# Altium integrated library TI Amplifiers and Linear Special Function Amplifier.IntLib: 708 symbols (part 36 of 47)
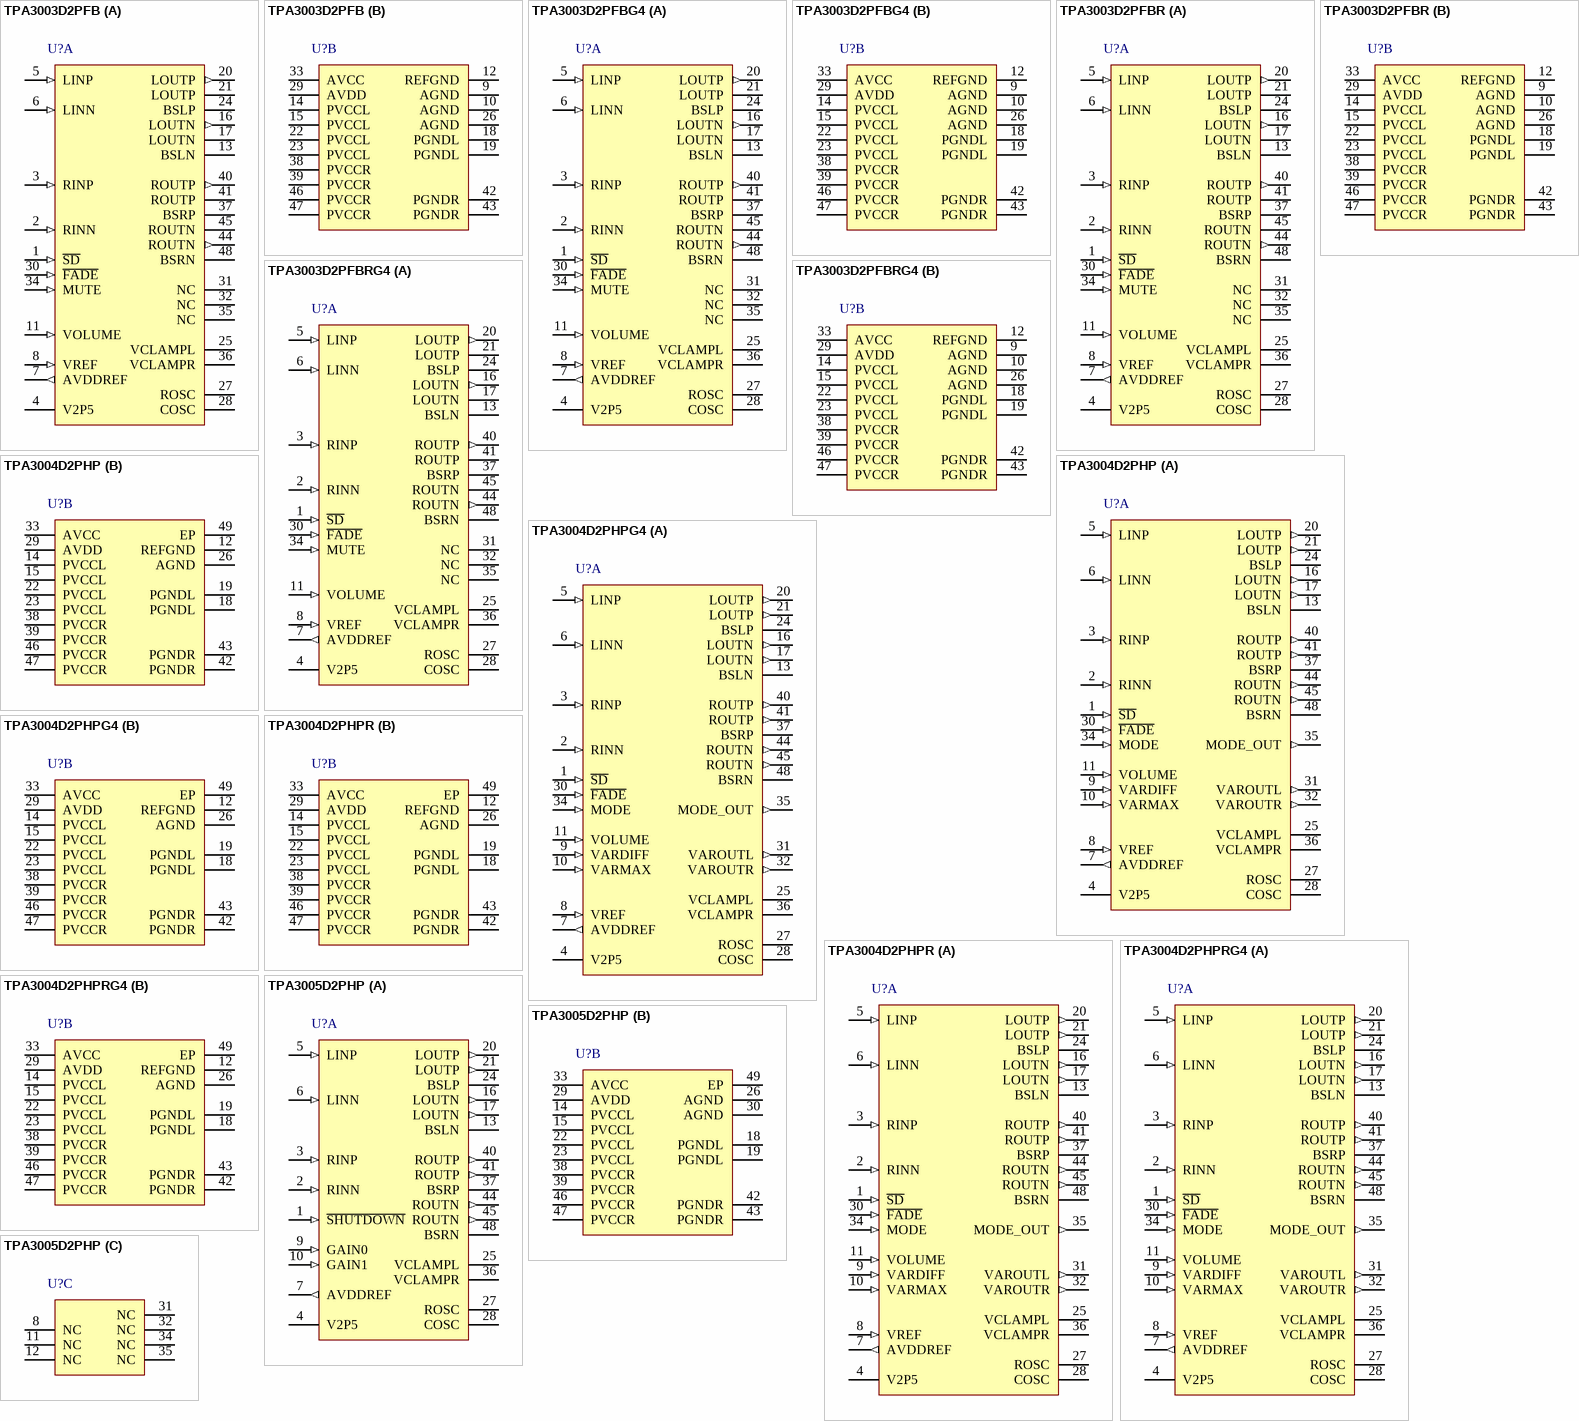
[diagram p74: symbols TPA3003D2PFB to TPA3005D2PHP]

## TPA3004D2PHPRG4
designator U?
12 W Stereo Class-D Audio Power Amplifier with Volume Control, -40 to 85 degC, 48-pin QFP (PHP48), Green (RoHS & no Sb/Br); Manufacturer: Texas Instruments; PartNumber: TPA3004D2PHPRG4; Analog Supply Max [V]: 18; Analog Supply Min [V]: 8.5; Input Type: Analog; Max. Number of Speaker Outputs: 2; SubFamily: Mid/High-Power Amplifier; DatasheetVersion: SLOS407E; PackageVersion: 4146927/B, 08/2003; PackageReference: PHP48-4385X4385TP; PackageDescription: 48-Pin PowerPAD(TM) Plastic Quad Flatpack, Body 7 x 7 mm, Pitch 0.5 mm; Supplier 1: Digi-Key; Supplier Part Number 1: TPA3004D2PHPRG4-ND; Supplier 2: Mouser; Supplier Part Number 2: 595-TPA3004D2PHPRG4; Eco-Plan: Green (RoHS & no Sb/Br); Power Stage Supply Min(V): 8.5; Mounting Technology: Surface Mount; Code_JEDEC: MS-026; ComponentLink1Description: Manufacturer URL; ComponentLink1URL: http://www.ti.com/; ComponentLink2Description: Datasheet; ComponentLink2URL: http://www.ti.com/general/docs/lit/getliterature.tsp?genericPartNumber=TPA3004D2&fileType=pdf; ComponentLink3Description: Package Specification; ComponentLink3URL: http://www.ti.com/litv/pdf/mpdi001b
footprint TI-PHP48-4385X4385TP_N (QFP, 48-Leads, Body 7x7mm, Pitch 0.5mm, Thermal Pad 4.9x4.9mm, IPC Medium Density)
footprint TI-PHP48-4385X4385TP_L (QFP, 48-Leads, Body 7x7mm, Pitch 0.5mm, Thermal Pad 4.9x4.9mm, IPC High Density)
footprint TI-PHP48-4385X4385TP_M (QFP, 48-Leads, Body 7x7mm, Pitch 0.5mm, Thermal Pad 4.9x4.9mm, IPC Low Density)
part A pins: 1 ~{SD} (in) "Shutdown signal for IC (low = shutdown, high = operational). TTL logic levels with compliance to VCC.", 2 RINN (in) "Negative differential audio input for right channel", 3 RINP (in) "Positive differential audio input for right channel", 4 V2P5 "2.5-V Reference for analog cells, as well as reference for unused audio input when using single-ended inputs.", 5 LINP (in) "Positive differential audio input for left channel", 6 LINN (in) "Negative differential audio input for left channel", 7 AVDDREF (out) "5-V Reference output-provided for connection to adjacent VREF terminal.", 8 VREF (in) "Analog reference for gain control section.", 9 VARDIFF (in) "DC voltage to set the difference in gain between the Class-D and VAROUT outputs. Connect to GND or AVDDREF if VAROUT outputs are unconnected.", 10 VARMAX (in) "DC voltage that sets the maximum gain for the VAROUT outputs. Connect to GND or AVDDREF if VAROUT outputs are unconnected.", 11 VOLUME (in) "DC voltage that sets the gain of the amplifier.", 13 BSLN "Bootstrap I/O for left channel, negative high-side FET", 16 LOUTN (out) "Class-D 1/2-H-bridge negative output for left channel", 17 LOUTN (out) "Class-D 1/2-H-bridge negative output for left channel", 20 LOUTP (out) "Class-D 1/2-H-bridge negative output for left channel", 21 LOUTP (out) "Class-D 1/2-H-bridge negative output for left channel", 24 BSLP "Bootstrap I/O for left channel, positive high-side FET", 25 VCLAMPL "Internally generated voltage supply for left channel bootstrap capacitors.", 27 ROSC "Current setting resistor for ramp generator. Nominally equal to 1/8*VCC", 28 COSC "I/O for charge/discharging currents onto capacitor for ramp generator triangle wave biased at V2P5", 30 ~{FADE} (in) "Input for controlling volume ramp rate. A logic low on this pin places the amplifier in fade mode. A logic high on this pin allows a quick transition to the desired volume setting when cycling S\D\ or during power-up.", 31 VAROUTL (out) "Variable output for left channel audio. Line level output for driving external HP amplifier.", 32 VAROUTR (out) "Variable output for right channel audio. Line level output for driving external HP amplifier.", 34 MODE (in) "Input for MODE control. A logic high on this pin places the amplifier in the variable output mode and the Class-D outputs are disabled. A logic low on this pin places the amplifier in the Class-D mode and Class-D stereo (See Datasheet)", 35 MODE_OUT (out) "Output for control of the variable output amplifiers. When the MODE pin (34) is a logic high, the MODE_OUT pin is driven low. When the MODE pin (34) is a logic low, the MODE_OUT pin is driven high. This pin is intended for (See Datasheet)", 36 VCLAMPR "Internally generated voltage supply for right channel bootstrap capacitors.", 37 BSRP "Bootstrap I/O for right channel, positive high-side FET", 40 ROUTP (out) "Class-D 1/2-H-bridge positive output for right channel", 41 ROUTP (out) "Class-D 1/2-H-bridge positive output for right channel", 44 ROUTN (out) "Class-D 1/2-H-bridge negative output for right channel", 45 ROUTN (out) "Class-D 1/2-H-bridge negative output for right channel", 48 BSRN "Bootstrap I/O for right channel, negative high-side FET"
part B pins: 12 REFGND (power) "Ground for gain control circuitry. Connect to AGND. If using a DAC to control the volume, connect the DAC ground to this terminal.", 14 PVCCL (power) "Power supply for left channel H-bridge (tied to pins 22 and 23 internally), not connected to PVCCR or AVCC.", 15 PVCCL (power) "Power supply for left channel H-bridge (tied to pins 22 and 23 internally), not connected to PVCCR or AVCC.", 18 PGNDL (power) "Power ground for left channel H-bridge", 19 PGNDL (power) "Power ground for left channel H-bridge", 22 PVCCL (power) "Power supply for left channel H-bridge (tied to pins 14 and 15 internally), not connected to PVCCR or AVCC.", 23 PVCCL (power) "Power supply for left channel H-bridge (tied to pins 14 and 15 internally), not connected to PVCCR or AVCC.", 26 AGND (power) "Analog ground for digital/analog cells in core", 29 AVDD (power) "5-V Regulated output capable of 100-mA output", 33 AVCC (power) "High-voltage analog power supply (8.5 V to 18 V)", 38 PVCCR (power) "Power supply for left channel H-bridge (tied to pins 14 and 15 internally), not connected to PVCCR or AVCC.", 39 PVCCR (power) "Power supply for left channel H-bridge (tied to pins 14 and 15 internally), not connected to PVCCR or AVCC.", 42 PGNDR (power) "Power ground for right channel H-bridge", 43 PGNDR (power) "Power ground for right channel H-bridge", 46 PVCCR (power) "Power supply for right channel H-bridge (tied to pins 38 and 39 internally), not connected to PVCCL or AVCC.", 47 PVCCR (power) "Power supply for right channel H-bridge (tied to pins 38 and 39 internally), not connected to PVCCL or AVCC.", 49 EP (power) "Connect to AGND and PGND-should be center point for both grounds."

## TPA3005D2PHP
designator U?
6 W Stereo Class-D Audio Power Amplifier, -40 to 85 degC, 48-pin QFP (PHP48), Green (RoHS & no Sb/Br); Manufacturer: Texas Instruments; PartNumber: TPA3005D2PHP; Analog Supply Max [V]: 18; Analog Supply Min [V]: 8.5; Input Type: Analog; Max. Number of Speaker Outputs: 2; SubFamily: Mid/High-Power Amplifier; DatasheetVersion: SLOS427A; PackageVersion: 4146927/B, 08/2003; PackageReference: PHP48-4385X4385TP; PackageDescription: 48-Pin PowerPAD(TM) Plastic Quad Flatpack, Body 7 x 7 mm, Pitch 0.5 mm; Supplier 1: Digi-Key; Supplier Part Number 1: TPA3005D2PHP-ND; Supplier 2: Newark; Supplier Part Number 2: 10J9729; Supplier 3: Mouser; Supplier Part Number 3: 595-TPA3005D2PHP; Eco-Plan: Green (RoHS & no Sb/Br); Power Stage Supply Min(V): 8.5; Mounting Technology: Surface Mount; Code_JEDEC: MS-026; ComponentLink1Description: Manufacturer URL; ComponentLink1URL: http://www.ti.com/; ComponentLink2Description: Datasheet; ComponentLink2URL: http://www.ti.com/general/docs/lit/getliterature.tsp?genericPartNumber=TPA3005D2&fileType=pdf; ComponentLink3Description: Package Specification; ComponentLink3URL: http://www.ti.com/litv/pdf/mpdi001b
footprint TI-PHP48-4385X4385TP_N (QFP, 48-Leads, Body 7x7mm, Pitch 0.5mm, Thermal Pad 4.9x4.9mm, IPC Medium Density)
footprint TI-PHP48-4385X4385TP_L (QFP, 48-Leads, Body 7x7mm, Pitch 0.5mm, Thermal Pad 4.9x4.9mm, IPC High Density)
footprint TI-PHP48-4385X4385TP_M (QFP, 48-Leads, Body 7x7mm, Pitch 0.5mm, Thermal Pad 4.9x4.9mm, IPC Low Density)
part A pins: 1 ~{SHUTDOWN} (in) "Shutdown signal for IC (low = shutdown, high = operational). TTL logic levels with compliance to VCC.", 2 RINN (in) "Negative differential audio input for right channel", 3 RINP (in) "Positive differential audio input for right channel", 4 V2P5 (power) "2.5-V Reference for analog cells.", 5 LINP (in) "Positive differential audio input for left channel", 6 LINN (in) "Negative differential audio input for left channel", 7 AVDDREF (out) "5-V Reference output-connect to gain setting resistor or directly to GAIN0, GAIN1.", 9 GAIN0 (in) "Gain select least significant bit. TTL logic levels with compliance to AVDD.", 10 GAIN1 (in) "Gain select most significant bit. TTL logic levels with compliance to AVDD.", 13 BSLN "Bootstrap I/O for left channel, negative high-side FET", 16 LOUTN (out) "Class-D 1/2-H-bridge negative output for left channel", 17 LOUTN (out) "Class-D 1/2-H-bridge negative output for left channel", 20 LOUTP (out) "Class-D 1/2-H-bridge negative output for left channel", 21 LOUTP (out) "Class-D 1/2-H-bridge negative output for left channel", 24 BSLP "Bootstrap I/O for left channel, positive high-side FET", 25 VCLAMPL "Internally generated voltage supply for left channel bootstrap capacitors.", 27 ROSC "I/O current setting resistor for ramp generator.", 28 COSC "I/O for charge/discharging currents onto capacitor for ramp generator.", 36 VCLAMPR "Internally generated voltage supply for right channel bootstrap capacitors.", 37 BSRP "Bootstrap I/O for right channel, positive high-side FET", 40 ROUTP (out) "Class-D 1/2-H-bridge positive output for right channel", 41 ROUTP (out) "Class-D 1/2-H-bridge positive output for right channel", 44 ROUTN (out) "Class-D 1/2-H-bridge negative output for right channel", 45 ROUTN (out) "Class-D 1/2-H-bridge negative output for right channel", 48 BSRN "Bootstrap I/O for right channel, negative high-side FET"
part B pins: 14 PVCCL (power) "Power supply for left channel H-bridge (tied to pins 22 and 23 internally), not connected to PVCCR or AVCC.", 15 PVCCL (power) "Power supply for left channel H-bridge (tied to pins 22 and 23 internally), not connected to PVCCR or AVCC.", 18 PGNDL (power) "Power ground for left channel H-bridge", 19 PGNDL (power) "Power ground for left channel H-bridge", 22 PVCCL (power) "Power supply for left channel H-bridge (tied to pins 14 and 15 internally), not connected to PVCCR or AVCC.", 23 PVCCL (power) "Power supply for left channel H-bridge (tied to pins 14 and 15 internally), not connected to PVCCR or AVCC.", 26 AGND (power) "Analog ground for digital/analog cells in core", 29 AVDD (power) "5-V Regulated output for use by internal cells and GAIN0, GAIN1 pins only. Not specified for driving other external circuitry.", 30 AGND (power) "Analog ground for digital/analog cells in core", 33 AVCC (power) "High-voltage analog power supply, not connected internally to PVCCR or PVCCL", 38 PVCCR (power) "Power supply for left channel H-bridge (tied to pins 14 and 15 internally), not connected to PVCCR or AVCC.", 39 PVCCR (power) "Power supply for left channel H-bridge (tied to pins 14 and 15 internally), not connected to PVCCR or AVCC.", 42 PGNDR (power) "Power ground for right channel H-bridge", 43 PGNDR (power) "Power ground for right channel H-bridge", 46 PVCCR (power) "Power supply for right channel H-bridge (tied to pins 38 and 39 internally), not connected to PVCCL or AVCC.", 47 PVCCR (power) "Power supply for right channel H-bridge (tied to pins 38 and 39 internally), not connected to PVCCL or AVCC.", 49 EP (power) "Connect to AGND and PGND-should be the center point for both grounds. Internal resistive connection to AGND."
part C pins: 8 NC "No internal connection", 11 NC "No internal connection", 12 NC "No internal connection", 31 NC "No internal connection", 32 NC "No internal connection", 34 NC "No internal connection", 35 NC "No internal connection"

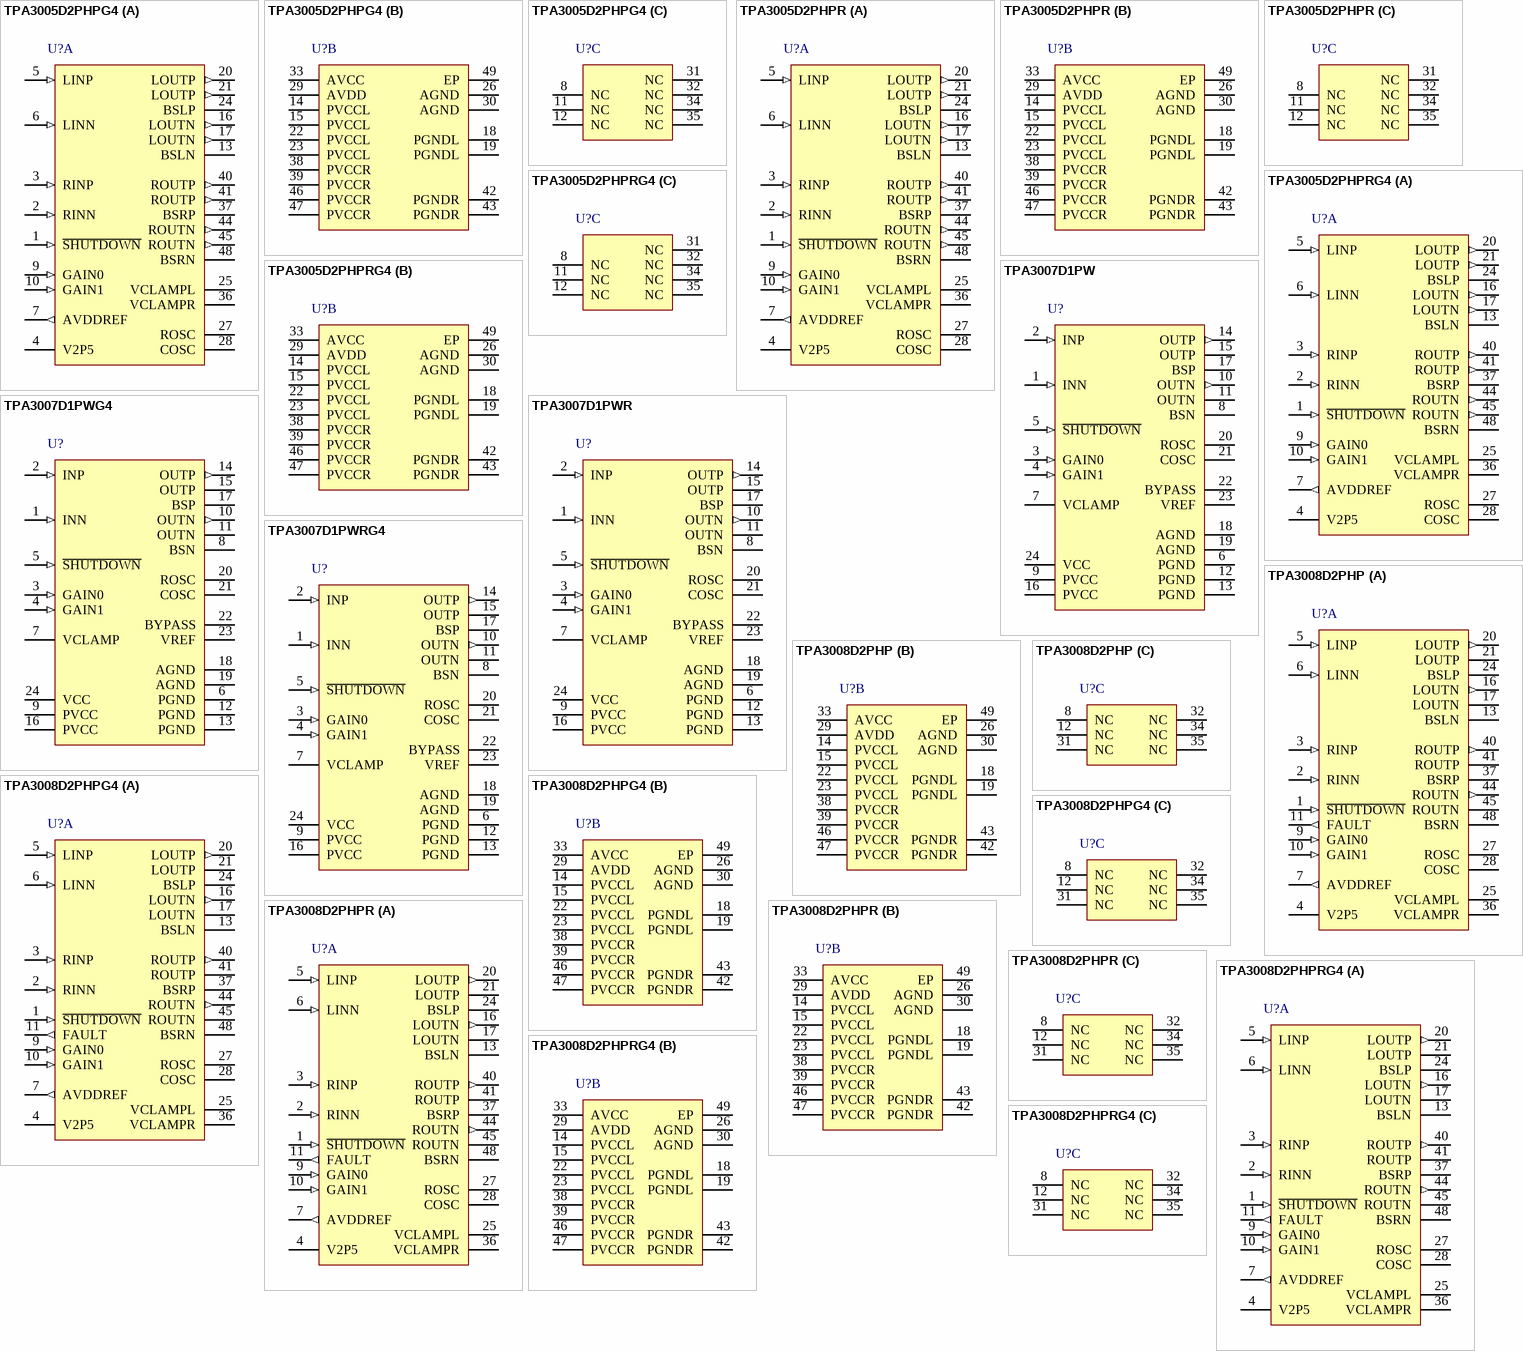
[diagram p31: symbols TPA3005D2PHPG4 to TPA3008D2PHPRG4]

## TPA3005D2PHPG4
designator U?
6 W Stereo Class-D Audio Power Amplifier, -40 to 85 degC, 48-pin QFP (PHP48), Green (RoHS & no Sb/Br); Manufacturer: Texas Instruments; PartNumber: TPA3005D2PHPG4; Analog Supply Max [V]: 18; Analog Supply Min [V]: 8.5; Input Type: Analog; Max. Number of Speaker Outputs: 2; SubFamily: Mid/High-Power Amplifier; DatasheetVersion: SLOS427A; PackageVersion: 4146927/B, 08/2003; PackageReference: PHP48-4385X4385TP; PackageDescription: 48-Pin PowerPAD(TM) Plastic Quad Flatpack, Body 7 x 7 mm, Pitch 0.5 mm; Supplier 1: Digi-Key; Supplier Part Number 1: TPA3005D2PHPG4-ND; Supplier 2: Newark; Supplier Part Number 2: 08K4920; Supplier 3: Mouser; Supplier Part Number 3: 595-TPA3005D2PHPG4; Eco-Plan: Green (RoHS & no Sb/Br); Power Stage Supply Min(V): 8.5; Mounting Technology: Surface Mount; Code_JEDEC: MS-026; ComponentLink1Description: Manufacturer URL; ComponentLink1URL: http://www.ti.com/; ComponentLink2Description: Datasheet; ComponentLink2URL: http://www.ti.com/general/docs/lit/getliterature.tsp?genericPartNumber=TPA3005D2&fileType=pdf; ComponentLink3Description: Package Specification; ComponentLink3URL: http://www.ti.com/litv/pdf/mpdi001b
footprint TI-PHP48-4385X4385TP_N (QFP, 48-Leads, Body 7x7mm, Pitch 0.5mm, Thermal Pad 4.9x4.9mm, IPC Medium Density)
footprint TI-PHP48-4385X4385TP_L (QFP, 48-Leads, Body 7x7mm, Pitch 0.5mm, Thermal Pad 4.9x4.9mm, IPC High Density)
footprint TI-PHP48-4385X4385TP_M (QFP, 48-Leads, Body 7x7mm, Pitch 0.5mm, Thermal Pad 4.9x4.9mm, IPC Low Density)
part A pins: 1 ~{SHUTDOWN} (in) "Shutdown signal for IC (low = shutdown, high = operational). TTL logic levels with compliance to VCC.", 2 RINN (in) "Negative differential audio input for right channel", 3 RINP (in) "Positive differential audio input for right channel", 4 V2P5 (power) "2.5-V Reference for analog cells.", 5 LINP (in) "Positive differential audio input for left channel", 6 LINN (in) "Negative differential audio input for left channel", 7 AVDDREF (out) "5-V Reference output-connect to gain setting resistor or directly to GAIN0, GAIN1.", 9 GAIN0 (in) "Gain select least significant bit. TTL logic levels with compliance to AVDD.", 10 GAIN1 (in) "Gain select most significant bit. TTL logic levels with compliance to AVDD.", 13 BSLN "Bootstrap I/O for left channel, negative high-side FET", 16 LOUTN (out) "Class-D 1/2-H-bridge negative output for left channel", 17 LOUTN (out) "Class-D 1/2-H-bridge negative output for left channel", 20 LOUTP (out) "Class-D 1/2-H-bridge negative output for left channel", 21 LOUTP (out) "Class-D 1/2-H-bridge negative output for left channel", 24 BSLP "Bootstrap I/O for left channel, positive high-side FET", 25 VCLAMPL "Internally generated voltage supply for left channel bootstrap capacitors.", 27 ROSC "I/O current setting resistor for ramp generator.", 28 COSC "I/O for charge/discharging currents onto capacitor for ramp generator.", 36 VCLAMPR "Internally generated voltage supply for right channel bootstrap capacitors.", 37 BSRP "Bootstrap I/O for right channel, positive high-side FET", 40 ROUTP (out) "Class-D 1/2-H-bridge positive output for right channel", 41 ROUTP (out) "Class-D 1/2-H-bridge positive output for right channel", 44 ROUTN (out) "Class-D 1/2-H-bridge negative output for right channel", 45 ROUTN (out) "Class-D 1/2-H-bridge negative output for right channel", 48 BSRN "Bootstrap I/O for right channel, negative high-side FET"
part B pins: 14 PVCCL (power) "Power supply for left channel H-bridge (tied to pins 22 and 23 internally), not connected to PVCCR or AVCC.", 15 PVCCL (power) "Power supply for left channel H-bridge (tied to pins 22 and 23 internally), not connected to PVCCR or AVCC.", 18 PGNDL (power) "Power ground for left channel H-bridge", 19 PGNDL (power) "Power ground for left channel H-bridge", 22 PVCCL (power) "Power supply for left channel H-bridge (tied to pins 14 and 15 internally), not connected to PVCCR or AVCC.", 23 PVCCL (power) "Power supply for left channel H-bridge (tied to pins 14 and 15 internally), not connected to PVCCR or AVCC.", 26 AGND (power) "Analog ground for digital/analog cells in core", 29 AVDD (power) "5-V Regulated output for use by internal cells and GAIN0, GAIN1 pins only. Not specified for driving other external circuitry.", 30 AGND (power) "Analog ground for digital/analog cells in core", 33 AVCC (power) "High-voltage analog power supply, not connected internally to PVCCR or PVCCL", 38 PVCCR (power) "Power supply for left channel H-bridge (tied to pins 14 and 15 internally), not connected to PVCCR or AVCC.", 39 PVCCR (power) "Power supply for left channel H-bridge (tied to pins 14 and 15 internally), not connected to PVCCR or AVCC.", 42 PGNDR (power) "Power ground for right channel H-bridge", 43 PGNDR (power) "Power ground for right channel H-bridge", 46 PVCCR (power) "Power supply for right channel H-bridge (tied to pins 38 and 39 internally), not connected to PVCCL or AVCC.", 47 PVCCR (power) "Power supply for right channel H-bridge (tied to pins 38 and 39 internally), not connected to PVCCL or AVCC.", 49 EP (power) "Connect to AGND and PGND-should be the center point for both grounds. Internal resistive connection to AGND."
part C pins: 8 NC "No internal connection", 11 NC "No internal connection", 12 NC "No internal connection", 31 NC "No internal connection", 32 NC "No internal connection", 34 NC "No internal connection", 35 NC "No internal connection"

## TPA3005D2PHPR
designator U?
6 W Stereo Class-D Audio Power Amplifier, -40 to 85 degC, 48-pin QFP (PHP48), Green (RoHS & no Sb/Br); Manufacturer: Texas Instruments; PartNumber: TPA3005D2PHPR; Analog Supply Max [V]: 18; Analog Supply Min [V]: 8.5; Input Type: Analog; Max. Number of Speaker Outputs: 2; SubFamily: Mid/High-Power Amplifier; DatasheetVersion: SLOS427A; PackageVersion: 4146927/B, 08/2003; PackageReference: PHP48-4385X4385TP; PackageDescription: 48-Pin PowerPAD(TM) Plastic Quad Flatpack, Body 7 x 7 mm, Pitch 0.5 mm; Supplier 1: Digi-Key; Supplier Part Number 1: 296-17058-2-ND; Supplier 2: Digi-Key; Supplier Part Number 2: 296-17058-1-ND; Supplier 3: Digi-Key; Supplier Part Number 3: 296-17058-6-ND; Supplier 4: Newark; Supplier Part Number 4: 10J9730; Supplier 5: Mouser; Supplier Part Number 5: 595-TPA3005D2PHPR; Eco-Plan: Green (RoHS & no Sb/Br); Power Stage Supply Min(V): 8.5; Mounting Technology: Surface Mount; Code_JEDEC: MS-026; ComponentLink1Description: Manufacturer URL; ComponentLink1URL: http://www.ti.com/; ComponentLink2Description: Datasheet; ComponentLink2URL: http://www.ti.com/general/docs/lit/getliterature.tsp?genericPartNumber=TPA3005D2&fileType=pdf; ComponentLink3Description: Package Specification; ComponentLink3URL: http://www.ti.com/litv/pdf/mpdi001b
footprint TI-PHP48-4385X4385TP_N (QFP, 48-Leads, Body 7x7mm, Pitch 0.5mm, Thermal Pad 4.9x4.9mm, IPC Medium Density)
footprint TI-PHP48-4385X4385TP_L (QFP, 48-Leads, Body 7x7mm, Pitch 0.5mm, Thermal Pad 4.9x4.9mm, IPC High Density)
footprint TI-PHP48-4385X4385TP_M (QFP, 48-Leads, Body 7x7mm, Pitch 0.5mm, Thermal Pad 4.9x4.9mm, IPC Low Density)
part A pins: 1 ~{SHUTDOWN} (in) "Shutdown signal for IC (low = shutdown, high = operational). TTL logic levels with compliance to VCC.", 2 RINN (in) "Negative differential audio input for right channel", 3 RINP (in) "Positive differential audio input for right channel", 4 V2P5 (power) "2.5-V Reference for analog cells.", 5 LINP (in) "Positive differential audio input for left channel", 6 LINN (in) "Negative differential audio input for left channel", 7 AVDDREF (out) "5-V Reference output-connect to gain setting resistor or directly to GAIN0, GAIN1.", 9 GAIN0 (in) "Gain select least significant bit. TTL logic levels with compliance to AVDD.", 10 GAIN1 (in) "Gain select most significant bit. TTL logic levels with compliance to AVDD.", 13 BSLN "Bootstrap I/O for left channel, negative high-side FET", 16 LOUTN (out) "Class-D 1/2-H-bridge negative output for left channel", 17 LOUTN (out) "Class-D 1/2-H-bridge negative output for left channel", 20 LOUTP (out) "Class-D 1/2-H-bridge negative output for left channel", 21 LOUTP (out) "Class-D 1/2-H-bridge negative output for left channel", 24 BSLP "Bootstrap I/O for left channel, positive high-side FET", 25 VCLAMPL "Internally generated voltage supply for left channel bootstrap capacitors.", 27 ROSC "I/O current setting resistor for ramp generator.", 28 COSC "I/O for charge/discharging currents onto capacitor for ramp generator.", 36 VCLAMPR "Internally generated voltage supply for right channel bootstrap capacitors.", 37 BSRP "Bootstrap I/O for right channel, positive high-side FET", 40 ROUTP (out) "Class-D 1/2-H-bridge positive output for right channel", 41 ROUTP (out) "Class-D 1/2-H-bridge positive output for right channel", 44 ROUTN (out) "Class-D 1/2-H-bridge negative output for right channel", 45 ROUTN (out) "Class-D 1/2-H-bridge negative output for right channel", 48 BSRN "Bootstrap I/O for right channel, negative high-side FET"
part B pins: 14 PVCCL (power) "Power supply for left channel H-bridge (tied to pins 22 and 23 internally), not connected to PVCCR or AVCC.", 15 PVCCL (power) "Power supply for left channel H-bridge (tied to pins 22 and 23 internally), not connected to PVCCR or AVCC.", 18 PGNDL (power) "Power ground for left channel H-bridge", 19 PGNDL (power) "Power ground for left channel H-bridge", 22 PVCCL (power) "Power supply for left channel H-bridge (tied to pins 14 and 15 internally), not connected to PVCCR or AVCC.", 23 PVCCL (power) "Power supply for left channel H-bridge (tied to pins 14 and 15 internally), not connected to PVCCR or AVCC.", 26 AGND (power) "Analog ground for digital/analog cells in core", 29 AVDD (power) "5-V Regulated output for use by internal cells and GAIN0, GAIN1 pins only. Not specified for driving other external circuitry.", 30 AGND (power) "Analog ground for digital/analog cells in core", 33 AVCC (power) "High-voltage analog power supply, not connected internally to PVCCR or PVCCL", 38 PVCCR (power) "Power supply for left channel H-bridge (tied to pins 14 and 15 internally), not connected to PVCCR or AVCC.", 39 PVCCR (power) "Power supply for left channel H-bridge (tied to pins 14 and 15 internally), not connected to PVCCR or AVCC.", 42 PGNDR (power) "Power ground for right channel H-bridge", 43 PGNDR (power) "Power ground for right channel H-bridge", 46 PVCCR (power) "Power supply for right channel H-bridge (tied to pins 38 and 39 internally), not connected to PVCCL or AVCC.", 47 PVCCR (power) "Power supply for right channel H-bridge (tied to pins 38 and 39 internally), not connected to PVCCL or AVCC.", 49 EP (power) "Connect to AGND and PGND-should be the center point for both grounds. Internal resistive connection to AGND."
part C pins: 8 NC "No internal connection", 11 NC "No internal connection", 12 NC "No internal connection", 31 NC "No internal connection", 32 NC "No internal connection", 34 NC "No internal connection", 35 NC "No internal connection"

## TPA3005D2PHPRG4
designator U?
6 W Stereo Class-D Audio Power Amplifier, -40 to 85 degC, 48-pin QFP (PHP48), Green (RoHS & no Sb/Br); Manufacturer: Texas Instruments; PartNumber: TPA3005D2PHPRG4; Analog Supply Max [V]: 18; Analog Supply Min [V]: 8.5; Input Type: Analog; Max. Number of Speaker Outputs: 2; SubFamily: Mid/High-Power Amplifier; DatasheetVersion: SLOS427A; PackageVersion: 4146927/B, 08/2003; PackageReference: PHP48-4385X4385TP; PackageDescription: 48-Pin PowerPAD(TM) Plastic Quad Flatpack, Body 7 x 7 mm, Pitch 0.5 mm; Supplier 1: Digi-Key; Supplier Part Number 1: TPA3005D2PHPRG4-ND; Supplier 2: Newark; Supplier Part Number 2: 71J8058; Supplier 3: Mouser; Supplier Part Number 3: 595-TPA3005D2PHPRG4; Eco-Plan: Green (RoHS & no Sb/Br); Power Stage Supply Min(V): 8.5; Mounting Technology: Surface Mount; Code_JEDEC: MS-026; ComponentLink1Description: Manufacturer URL; ComponentLink1URL: http://www.ti.com/; ComponentLink2Description: Datasheet; ComponentLink2URL: http://www.ti.com/general/docs/lit/getliterature.tsp?genericPartNumber=TPA3005D2&fileType=pdf; ComponentLink3Description: Package Specification; ComponentLink3URL: http://www.ti.com/litv/pdf/mpdi001b
footprint TI-PHP48-4385X4385TP_N (QFP, 48-Leads, Body 7x7mm, Pitch 0.5mm, Thermal Pad 4.9x4.9mm, IPC Medium Density)
footprint TI-PHP48-4385X4385TP_L (QFP, 48-Leads, Body 7x7mm, Pitch 0.5mm, Thermal Pad 4.9x4.9mm, IPC High Density)
footprint TI-PHP48-4385X4385TP_M (QFP, 48-Leads, Body 7x7mm, Pitch 0.5mm, Thermal Pad 4.9x4.9mm, IPC Low Density)
part A pins: 1 ~{SHUTDOWN} (in) "Shutdown signal for IC (low = shutdown, high = operational). TTL logic levels with compliance to VCC.", 2 RINN (in) "Negative differential audio input for right channel", 3 RINP (in) "Positive differential audio input for right channel", 4 V2P5 (power) "2.5-V Reference for analog cells.", 5 LINP (in) "Positive differential audio input for left channel", 6 LINN (in) "Negative differential audio input for left channel", 7 AVDDREF (out) "5-V Reference output-connect to gain setting resistor or directly to GAIN0, GAIN1.", 9 GAIN0 (in) "Gain select least significant bit. TTL logic levels with compliance to AVDD.", 10 GAIN1 (in) "Gain select most significant bit. TTL logic levels with compliance to AVDD.", 13 BSLN "Bootstrap I/O for left channel, negative high-side FET", 16 LOUTN (out) "Class-D 1/2-H-bridge negative output for left channel", 17 LOUTN (out) "Class-D 1/2-H-bridge negative output for left channel", 20 LOUTP (out) "Class-D 1/2-H-bridge negative output for left channel", 21 LOUTP (out) "Class-D 1/2-H-bridge negative output for left channel", 24 BSLP "Bootstrap I/O for left channel, positive high-side FET", 25 VCLAMPL "Internally generated voltage supply for left channel bootstrap capacitors.", 27 ROSC "I/O current setting resistor for ramp generator.", 28 COSC "I/O for charge/discharging currents onto capacitor for ramp generator.", 36 VCLAMPR "Internally generated voltage supply for right channel bootstrap capacitors.", 37 BSRP "Bootstrap I/O for right channel, positive high-side FET", 40 ROUTP (out) "Class-D 1/2-H-bridge positive output for right channel", 41 ROUTP (out) "Class-D 1/2-H-bridge positive output for right channel", 44 ROUTN (out) "Class-D 1/2-H-bridge negative output for right channel", 45 ROUTN (out) "Class-D 1/2-H-bridge negative output for right channel", 48 BSRN "Bootstrap I/O for right channel, negative high-side FET"
part B pins: 14 PVCCL (power) "Power supply for left channel H-bridge (tied to pins 22 and 23 internally), not connected to PVCCR or AVCC.", 15 PVCCL (power) "Power supply for left channel H-bridge (tied to pins 22 and 23 internally), not connected to PVCCR or AVCC.", 18 PGNDL (power) "Power ground for left channel H-bridge", 19 PGNDL (power) "Power ground for left channel H-bridge", 22 PVCCL (power) "Power supply for left channel H-bridge (tied to pins 14 and 15 internally), not connected to PVCCR or AVCC.", 23 PVCCL (power) "Power supply for left channel H-bridge (tied to pins 14 and 15 internally), not connected to PVCCR or AVCC.", 26 AGND (power) "Analog ground for digital/analog cells in core", 29 AVDD (power) "5-V Regulated output for use by internal cells and GAIN0, GAIN1 pins only. Not specified for driving other external circuitry.", 30 AGND (power) "Analog ground for digital/analog cells in core", 33 AVCC (power) "High-voltage analog power supply, not connected internally to PVCCR or PVCCL", 38 PVCCR (power) "Power supply for left channel H-bridge (tied to pins 14 and 15 internally), not connected to PVCCR or AVCC.", 39 PVCCR (power) "Power supply for left channel H-bridge (tied to pins 14 and 15 internally), not connected to PVCCR or AVCC.", 42 PGNDR (power) "Power ground for right channel H-bridge", 43 PGNDR (power) "Power ground for right channel H-bridge", 46 PVCCR (power) "Power supply for right channel H-bridge (tied to pins 38 and 39 internally), not connected to PVCCL or AVCC.", 47 PVCCR (power) "Power supply for right channel H-bridge (tied to pins 38 and 39 internally), not connected to PVCCL or AVCC.", 49 EP (power) "Connect to AGND and PGND-should be the center point for both grounds. Internal resistive connection to AGND."
part C pins: 8 NC "No internal connection", 11 NC "No internal connection", 12 NC "No internal connection", 31 NC "No internal connection", 32 NC "No internal connection", 34 NC "No internal connection", 35 NC "No internal connection"

## TPA3007D1PW
designator U?
6.5 W Mono Class-D Audio Power Amplifier, -40 to 85 degC, 24-pin SOP (PW24), Green (RoHS & no Sb/Br); Manufacturer: Texas Instruments; PartNumber: TPA3007D1PW; Analog Supply Max [V]: 18; Analog Supply Min [V]: 8; Input Type: Analog; Max. Number of Speaker Outputs: 1; SubFamily: Mid/High-Power Amplifier; DatasheetVersion: SLOS418D; PackageVersion: 4040064-6/G, 02/2011; PackageReference: PW24; PackageDescription: 24-Pin Plastic Small Outline, Body 7.8 x 4.4 mm, Pitch 0.65 mm; Supplier 1: Digi-Key; Supplier Part Number 1: 296-15792-5-ND; Supplier 2: Farnell; Supplier Part Number 2: 2323262; Supplier 3: Newark; Supplier Part Number 3: 87H2872; Supplier 4: Mouser; Supplier Part Number 4: 595-TPA3007D1PW; Eco-Plan: Green (RoHS & no Sb/Br); Power Stage Supply Min(V): 8; Mounting Technology: Surface Mount; Code_JEDEC: MO-153; ComponentLink1Description: Manufacturer URL; ComponentLink1URL: http://www.ti.com/; ComponentLink2Description: Datasheet; ComponentLink2URL: http://www.ti.com/general/docs/lit/getliterature.tsp?genericPartNumber=TPA3007D1&fileType=pdf; ComponentLink3Description: Package Specification; ComponentLink3URL: http://www.ti.com/litv/pdf/mpds363
footprint TI-PW24_N (SOP, 24-Leads, Body 7.8x4.4mm, Pitch 0.65mm, IPC Medium Density)
footprint TI-PW24_L (SOP, 24-Leads, Body 7.8x4.4mm, Pitch 0.65mm, IPC High Density)
footprint TI-PW24_M (SOP, 24-Leads, Body 7.8x4.4mm, Pitch 0.65mm, IPC Low Density)
pins: 1 INN (in) "Negative differential input", 2 INP (in) "Positive differential input", 3 GAIN0 (in) "Bit 0 of gain control (see Table 2 for gain settings)", 4 GAIN1 (in) "Bit 1 of gain control (see Table 2 for gain settings)", 5 ~{SHUTDOWN} (in) "Shutdown terminal (active low), TTL compatible, 21-V compliant", 6 PGND (power) "Power ground", 7 VCLAMP "Connect 1 uF capacitor to ground to provide reference voltage for H-bridge gates", 8 BSN "Bootstrap terminal for high-side gate drive of negative BTL output (connect a 0.22 uF capacitor with a 51 ohm resistor in series from OUTN to BSN)", 9 PVCC (power) "High-voltage power supply (for output stages)", 10 OUTN (out) "Negative BTL output, connect Schottky diode from PGND to OUTN for short-circuit protection", 11 OUTN "Negative BTL output, connect Schottky diode from PGND to OUTN for short-circuit protection", 12 PGND (power) "Power ground", 13 PGND (power) "Power ground", 14 OUTP (out) "Positive BTL output, connect Schottky diode from PGND to OUTP for short-circuit protection", 15 OUTP "Positive BTL output, connect Schottky diode from PGND to OUTP for short-circuit protection", 16 PVCC (power) "High-voltage power supply (for output stages)", 17 BSP "Bootstrap terminal for high-side gate drive of positive BTL output (connect a 0.22 uF capacitor with a 51 ohm resistor in series from OUTP to BSP)", 18 AGND (power) "Analog ground terminal", 19 AGND (power) "Analog ground terminal", 20 ROSC "Connect 120 kohm resistor to ground to set oscillation frequency", 21 COSC "Connect a 220 pF capacitor to ground to set oscillation frequency", 22 BYPASS "Connect 1 uF capacitor to ground for BYPASS voltage filtering", 23 VREF "5-V internal regulator for control circuitry (connect a 0.1 uF to 1 uF capacitor to ground)", 24 VCC (power) "Analog high-voltage power supply"

## TPA3007D1PWG4
designator U?
6.5 W Mono Class-D Audio Power Amplifier, -40 to 85 degC, 24-pin SOP (PW24), Green (RoHS & no Sb/Br); Manufacturer: Texas Instruments; PartNumber: TPA3007D1PWG4; Analog Supply Max [V]: 18; Analog Supply Min [V]: 8; Input Type: Analog; Max. Number of Speaker Outputs: 1; SubFamily: Mid/High-Power Amplifier; DatasheetVersion: SLOS418D; PackageVersion: 4040064-6/G, 02/2011; PackageReference: PW24; PackageDescription: 24-Pin Plastic Small Outline, Body 7.8 x 4.4 mm, Pitch 0.65 mm; Supplier 1: Digi-Key; Supplier Part Number 1: TPA3007D1PWG4-ND; Supplier 2: Mouser; Supplier Part Number 2: 595-TPA3007D1PWG4; Eco-Plan: Green (RoHS & no Sb/Br); Power Stage Supply Min(V): 8; Mounting Technology: Surface Mount; Code_JEDEC: MO-153; ComponentLink1Description: Manufacturer URL; ComponentLink1URL: http://www.ti.com/; ComponentLink2Description: Datasheet; ComponentLink2URL: http://www.ti.com/general/docs/lit/getliterature.tsp?genericPartNumber=TPA3007D1&fileType=pdf; ComponentLink3Description: Package Specification; ComponentLink3URL: http://www.ti.com/litv/pdf/mpds363
footprint TI-PW24_N (SOP, 24-Leads, Body 7.8x4.4mm, Pitch 0.65mm, IPC Medium Density)
footprint TI-PW24_L (SOP, 24-Leads, Body 7.8x4.4mm, Pitch 0.65mm, IPC High Density)
footprint TI-PW24_M (SOP, 24-Leads, Body 7.8x4.4mm, Pitch 0.65mm, IPC Low Density)
pins: 1 INN (in) "Negative differential input", 2 INP (in) "Positive differential input", 3 GAIN0 (in) "Bit 0 of gain control (see Table 2 for gain settings)", 4 GAIN1 (in) "Bit 1 of gain control (see Table 2 for gain settings)", 5 ~{SHUTDOWN} (in) "Shutdown terminal (active low), TTL compatible, 21-V compliant", 6 PGND (power) "Power ground", 7 VCLAMP "Connect 1 uF capacitor to ground to provide reference voltage for H-bridge gates", 8 BSN "Bootstrap terminal for high-side gate drive of negative BTL output (connect a 0.22 uF capacitor with a 51 ohm resistor in series from OUTN to BSN)", 9 PVCC (power) "High-voltage power supply (for output stages)", 10 OUTN (out) "Negative BTL output, connect Schottky diode from PGND to OUTN for short-circuit protection", 11 OUTN "Negative BTL output, connect Schottky diode from PGND to OUTN for short-circuit protection", 12 PGND (power) "Power ground", 13 PGND (power) "Power ground", 14 OUTP (out) "Positive BTL output, connect Schottky diode from PGND to OUTP for short-circuit protection", 15 OUTP "Positive BTL output, connect Schottky diode from PGND to OUTP for short-circuit protection", 16 PVCC (power) "High-voltage power supply (for output stages)", 17 BSP "Bootstrap terminal for high-side gate drive of positive BTL output (connect a 0.22 uF capacitor with a 51 ohm resistor in series from OUTP to BSP)", 18 AGND (power) "Analog ground terminal", 19 AGND (power) "Analog ground terminal", 20 ROSC "Connect 120 kohm resistor to ground to set oscillation frequency", 21 COSC "Connect a 220 pF capacitor to ground to set oscillation frequency", 22 BYPASS "Connect 1 uF capacitor to ground for BYPASS voltage filtering", 23 VREF "5-V internal regulator for control circuitry (connect a 0.1 uF to 1 uF capacitor to ground)", 24 VCC (power) "Analog high-voltage power supply"

## TPA3007D1PWR
designator U?
6.5 W Mono Class-D Audio Power Amplifier, -40 to 85 degC, 24-pin SOP (PW24), Green (RoHS & no Sb/Br); Manufacturer: Texas Instruments; PartNumber: TPA3007D1PWR; Analog Supply Max [V]: 18; Analog Supply Min [V]: 8; Input Type: Analog; Max. Number of Speaker Outputs: 1; SubFamily: Mid/High-Power Amplifier; DatasheetVersion: SLOS418D; PackageVersion: 4040064-6/G, 02/2011; PackageReference: PW24; PackageDescription: 24-Pin Plastic Small Outline, Body 7.8 x 4.4 mm, Pitch 0.65 mm; Supplier 1: Digi-Key; Supplier Part Number 1: 296-26880-2-ND; Supplier 2: Digi-Key; Supplier Part Number 2: 296-26880-1-ND; Supplier 3: Digi-Key; Supplier Part Number 3: 296-26880-6-ND; Supplier 4: Newark; Supplier Part Number 4: 87H2873; Supplier 5: Mouser; Supplier Part Number 5: 595-TPA3007D1PWR; Eco-Plan: Green (RoHS & no Sb/Br); Power Stage Supply Min(V): 8; Mounting Technology: Surface Mount; Code_JEDEC: MO-153; ComponentLink1Description: Manufacturer URL; ComponentLink1URL: http://www.ti.com/; ComponentLink2Description: Datasheet; ComponentLink2URL: http://www.ti.com/general/docs/lit/getliterature.tsp?genericPartNumber=TPA3007D1&fileType=pdf; ComponentLink3Description: Package Specification; ComponentLink3URL: http://www.ti.com/litv/pdf/mpds363
footprint TI-PW24_N (SOP, 24-Leads, Body 7.8x4.4mm, Pitch 0.65mm, IPC Medium Density)
footprint TI-PW24_L (SOP, 24-Leads, Body 7.8x4.4mm, Pitch 0.65mm, IPC High Density)
footprint TI-PW24_M (SOP, 24-Leads, Body 7.8x4.4mm, Pitch 0.65mm, IPC Low Density)
pins: 1 INN (in) "Negative differential input", 2 INP (in) "Positive differential input", 3 GAIN0 (in) "Bit 0 of gain control (see Table 2 for gain settings)", 4 GAIN1 (in) "Bit 1 of gain control (see Table 2 for gain settings)", 5 ~{SHUTDOWN} (in) "Shutdown terminal (active low), TTL compatible, 21-V compliant", 6 PGND (power) "Power ground", 7 VCLAMP "Connect 1 uF capacitor to ground to provide reference voltage for H-bridge gates", 8 BSN "Bootstrap terminal for high-side gate drive of negative BTL output (connect a 0.22 uF capacitor with a 51 ohm resistor in series from OUTN to BSN)", 9 PVCC (power) "High-voltage power supply (for output stages)", 10 OUTN (out) "Negative BTL output, connect Schottky diode from PGND to OUTN for short-circuit protection", 11 OUTN "Negative BTL output, connect Schottky diode from PGND to OUTN for short-circuit protection", 12 PGND (power) "Power ground", 13 PGND (power) "Power ground", 14 OUTP (out) "Positive BTL output, connect Schottky diode from PGND to OUTP for short-circuit protection", 15 OUTP "Positive BTL output, connect Schottky diode from PGND to OUTP for short-circuit protection", 16 PVCC (power) "High-voltage power supply (for output stages)", 17 BSP "Bootstrap terminal for high-side gate drive of positive BTL output (connect a 0.22 uF capacitor with a 51 ohm resistor in series from OUTP to BSP)", 18 AGND (power) "Analog ground terminal", 19 AGND (power) "Analog ground terminal", 20 ROSC "Connect 120 kohm resistor to ground to set oscillation frequency", 21 COSC "Connect a 220 pF capacitor to ground to set oscillation frequency", 22 BYPASS "Connect 1 uF capacitor to ground for BYPASS voltage filtering", 23 VREF "5-V internal regulator for control circuitry (connect a 0.1 uF to 1 uF capacitor to ground)", 24 VCC (power) "Analog high-voltage power supply"

## TPA3007D1PWRG4
designator U?
6.5 W Mono Class-D Audio Power Amplifier, -40 to 85 degC, 24-pin SOP (PW24), Green (RoHS & no Sb/Br); Manufacturer: Texas Instruments; PartNumber: TPA3007D1PWRG4; Analog Supply Max [V]: 18; Analog Supply Min [V]: 8; Input Type: Analog; Max. Number of Speaker Outputs: 1; SubFamily: Mid/High-Power Amplifier; DatasheetVersion: SLOS418D; PackageVersion: 4040064-6/G, 02/2011; PackageReference: PW24; PackageDescription: 24-Pin Plastic Small Outline, Body 7.8 x 4.4 mm, Pitch 0.65 mm; Supplier 1: Digi-Key; Supplier Part Number 1: TPA3007D1PWRG4-ND; Supplier 2: Mouser; Supplier Part Number 2: 595-TPA3007D1PWRG4; Eco-Plan: Green (RoHS & no Sb/Br); Power Stage Supply Min(V): 8; Mounting Technology: Surface Mount; Code_JEDEC: MO-153; ComponentLink1Description: Manufacturer URL; ComponentLink1URL: http://www.ti.com/; ComponentLink2Description: Datasheet; ComponentLink2URL: http://www.ti.com/general/docs/lit/getliterature.tsp?genericPartNumber=TPA3007D1&fileType=pdf; ComponentLink3Description: Package Specification; ComponentLink3URL: http://www.ti.com/litv/pdf/mpds363
footprint TI-PW24_N (SOP, 24-Leads, Body 7.8x4.4mm, Pitch 0.65mm, IPC Medium Density)
footprint TI-PW24_L (SOP, 24-Leads, Body 7.8x4.4mm, Pitch 0.65mm, IPC High Density)
footprint TI-PW24_M (SOP, 24-Leads, Body 7.8x4.4mm, Pitch 0.65mm, IPC Low Density)
pins: 1 INN (in) "Negative differential input", 2 INP (in) "Positive differential input", 3 GAIN0 (in) "Bit 0 of gain control (see Table 2 for gain settings)", 4 GAIN1 (in) "Bit 1 of gain control (see Table 2 for gain settings)", 5 ~{SHUTDOWN} (in) "Shutdown terminal (active low), TTL compatible, 21-V compliant", 6 PGND (power) "Power ground", 7 VCLAMP "Connect 1 uF capacitor to ground to provide reference voltage for H-bridge gates", 8 BSN "Bootstrap terminal for high-side gate drive of negative BTL output (connect a 0.22 uF capacitor with a 51 ohm resistor in series from OUTN to BSN)", 9 PVCC (power) "High-voltage power supply (for output stages)", 10 OUTN (out) "Negative BTL output, connect Schottky diode from PGND to OUTN for short-circuit protection", 11 OUTN "Negative BTL output, connect Schottky diode from PGND to OUTN for short-circuit protection", 12 PGND (power) "Power ground", 13 PGND (power) "Power ground", 14 OUTP (out) "Positive BTL output, connect Schottky diode from PGND to OUTP for short-circuit protection", 15 OUTP "Positive BTL output, connect Schottky diode from PGND to OUTP for short-circuit protection", 16 PVCC (power) "High-voltage power supply (for output stages)", 17 BSP "Bootstrap terminal for high-side gate drive of positive BTL output (connect a 0.22 uF capacitor with a 51 ohm resistor in series from OUTP to BSP)", 18 AGND (power) "Analog ground terminal", 19 AGND (power) "Analog ground terminal", 20 ROSC "Connect 120 kohm resistor to ground to set oscillation frequency", 21 COSC "Connect a 220 pF capacitor to ground to set oscillation frequency", 22 BYPASS "Connect 1 uF capacitor to ground for BYPASS voltage filtering", 23 VREF "5-V internal regulator for control circuitry (connect a 0.1 uF to 1 uF capacitor to ground)", 24 VCC (power) "Analog high-voltage power supply"

## TPA3008D2PHP
designator U?
10 W Stereo Class-D Audio Power Amplifier, -40 to 85 degC, 48-pin QFP (PHP48), Green (RoHS & no Sb/Br); Manufacturer: Texas Instruments; PartNumber: TPA3008D2PHP; Analog Supply Max [V]: 18; Analog Supply Min [V]: 8.5; Input Type: Analog; Max. Number of Speaker Outputs: 2; SubFamily: Mid/High-Power Amplifier; DatasheetVersion: SLOS435C; PackageVersion: 4146927/B, 08/2003; PackageReference: PHP48-4385X4385TP; PackageDescription: 48-Pin PowerPAD(TM) Plastic Quad Flatpack, Body 7 x 7 mm, Pitch 0.5 mm; Supplier 1: Digi-Key; Supplier Part Number 1: 296-17210-ND; Supplier 2: Newark; Supplier Part Number 2: 21J9176; Supplier 3: Mouser; Supplier Part Number 3: 595-TPA3008D2PHP; Eco-Plan: Green (RoHS & no Sb/Br); Power Stage Supply Min(V): 8.5; Mounting Technology: Surface Mount; Code_JEDEC: MS-026; ComponentLink1Description: Manufacturer URL; ComponentLink1URL: http://www.ti.com/; ComponentLink2Description: Datasheet; ComponentLink2URL: http://www.ti.com/general/docs/lit/getliterature.tsp?genericPartNumber=TPA3008D2&fileType=pdf; ComponentLink3Description: Package Specification; ComponentLink3URL: http://www.ti.com/litv/pdf/mpdi001b
footprint TI-PHP48-4385X4385TP_N (QFP, 48-Leads, Body 7x7mm, Pitch 0.5mm, Thermal Pad 4.9x4.9mm, IPC Medium Density)
footprint TI-PHP48-4385X4385TP_L (QFP, 48-Leads, Body 7x7mm, Pitch 0.5mm, Thermal Pad 4.9x4.9mm, IPC High Density)
footprint TI-PHP48-4385X4385TP_M (QFP, 48-Leads, Body 7x7mm, Pitch 0.5mm, Thermal Pad 4.9x4.9mm, IPC Low Density)
part A pins: 1 ~{SHUTDOWN} (in) "Shutdown signal for IC (low = shutdown, high = operational). TTL logic levels with compliance to VCC.", 2 RINN (in) "Negative audio input for right channel", 3 RINP (in) "Positive audio input for right channel", 4 V2P5 "2.5-V Reference for analog cells.", 5 LINP (in) "Positive audio input for left channel", 6 LINN (in) "Negative audio input for left channel", 7 AVDDREF (out) "5-V Reference output-connect to gain setting resistor or directly to GAIN0, GAIN1.", 9 GAIN0 (in) "Gain select least significant bit. TTL logic levels with compliance to AVDD.", 10 GAIN1 (in) "Gain select most significant bit. TTL logic levels with compliance to AVDD.", 11 FAULT (out) "Short-circuit detect fault output. FAULT = high, short-circuit detected. F\A\U\L\T\ = low, normal operation. Status is reset when power is cycled or S\H\U\T\D\O\W\N\ is cycled.", 13 BSLN "Bootstrap I/O for left channel, negative high-side FET", 16 LOUTN (out) "Class-D 1/2-H-bridge negative output for left channel", 17 LOUTN "Class-D 1/2-H-bridge negative output for left channel", 20 LOUTP (out) "Class-D 1/2-H-bridge positive output for left channel", 21 LOUTP "Class-D 1/2-H-bridge positive output for left channel", 24 BSLP "Bootstrap I/O for left channel, positive high-side FET", 25 VCLAMPL "Internally generated voltage supply for left channel bootstrap capacitors.", 27 ROSC "I/O current setting resistor for ramp generator.", 28 COSC "I/O for charge/discharging currents onto capacitor for ramp generator.", 36 VCLAMPR "Internally generated voltage supply for right channel bootstrap capacitors.", 37 BSRP "Bootstrap I/O for right channel, positive high-side FET", 40 ROUTP (out) "Class-D 1/2-H-bridge positive output for right channel", 41 ROUTP "Class-D 1/2-H-bridge positive output for right channel", 44 ROUTN (out) "Class-D 1/2-H-bridge negative output for right channel", 45 ROUTN "Class-D 1/2-H-bridge negative output for right channel", 48 BSRN "Bootstrap I/O for right channel, negative high-side FET"
part B pins: 14 PVCCL (power) "Power supply for left channel H-bridge (internally connected to pins 22 and 23), not connected to PVCCR or AVCC.", 15 PVCCL (power) "Power supply for left channel H-bridge (internally connected to pins 22 and 23), not connected to PVCCR or AVCC.", 18 PGNDL (power) "Power ground for left channel H-bridge", 19 PGNDL (power) "Power ground for left channel H-bridge", 22 PVCCL (power) "Power supply for left channel H-bridge (internally connected to pins 14 and 15), not connected to PVCCR or AVCC.", 23 PVCCL (power) "Power supply for left channel H-bridge (internally connected to pins 14 and 15), not connected to PVCCR or AVCC.", 26 AGND (power) "Analog ground for digital/analog cells in core", 29 AVDD (power) "5-V Regulated output for use by internal cells and GAIN0, GAIN1 pins only. Not specified for driving other external circuitry.", 30 AGND (power) "Analog ground for digital/analog cells in core", 33 AVCC (power) "High-voltage analog power supply, not connected internally to PVCCR or PVCCL", 38 PVCCR (power) "Power supply for right channel H-bridge (internally connected to pins 46 and 47), not connected to PVCCL or AVCC.", 39 PVCCR (power) "Power supply for right channel H-bridge (internally connected to pins 46 and 47), not connected to PVCCL or AVCC.", 42 PGNDR (power) "Power ground for right channel H-bridge", 43 PGNDR (power) "Power ground for right channel H-bridge", 46 PVCCR (power) "Power supply for right channel H-bridge (internally connected to pins 38 and 39), not connected to PVCCL or AVCC.", 47 PVCCR (power) "Power supply for right channel H-bridge (internally connected to pins 38 and 39), not connected to PVCCL or AVCC.", 49 EP (power) "Connect to AGND and PGND-should be the center point for both grounds. Internal resistive connection to AGND."
part C pins: 8 NC "No internal connection", 12 NC "No internal connection", 31 NC "No internal connection", 32 NC "No internal connection", 34 NC "No internal connection", 35 NC "No internal connection"